# EAGLE library part ADS7959 (library packages(ti))
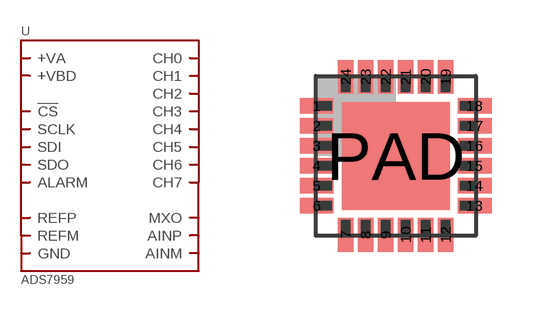
[diagram p15: symbol with the pads of RGE.24; footprint RGE.24]

Designator prefix U

## ADS7959.RGE  [RGE.24]
1  +VA
2  GND
3  MXO
4  AINP
5  AINM
6  CH7
7  CH6
8  CH5
9  CH4
10  CH3
11  CH2
12  CH1
13  CH0
14  +VA
15  GND
16  !CS
17  SCLK
18  SDI
19  SDO
20  GND
21  +VBD
22  ALARM
23  REFM
24  REFP
PAD  GND

## Footprint RGE.24 (pad centres in mm)
smd 0.85 x 0.38: 1 -1.975,1.25; 2 -1.975,0.75; 3 -1.975,0.25; 4 -1.975,-0.25; 5 -1.975,-0.75; 6 -1.975,-1.25; 13 1.975,-1.25; 14 1.975,-0.75; 15 1.975,-0.25; 16 1.975,0.25; 17 1.975,0.75; 18 1.975,1.25
smd 0.38 x 0.85: 7 -1.25,-1.975; 8 -0.75,-1.975; 9 -0.25,-1.975; 10 0.25,-1.975; 11 0.75,-1.975; 12 1.25,-1.975; 19 1.25,1.975; 20 0.75,1.975; 21 0.25,1.975; 22 -0.25,1.975; 23 -0.75,1.975; 24 -1.25,1.975
smd 2.7 x 2.7: PAD 0,0